# Altium integrated library TBP02R1-381-04BE.IntLib: 1 symbol
Pins are listed as number, name and electrical type; pins without a type are passive.

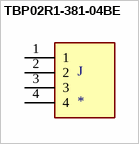
[diagram p0: symbol TBP02R1-381-04BE]

## TBP02R1-381-04BE
designator J
2~24 Poles, Pluggable,Receptacle, Horizontal, 3.81 Pitch, Terminal Block Connector; MF: CUI Devices; MP: TBP02R1-381-04BE; CUI_purchase_URL: https://www.cuidevices.com/product/interconnect/connectors/terminal-blocks/tbp02r1-381-series?utm_source=snapeda.com&utm_medium=referral&utm_campaign=snapedaBOM; SnapEDA_Link: https://www.snapeda.com/parts/TBP02R1-381-04BE/CUI%20Devices/view-part/3604718/?ref=snap; Price: None; Availability: Unavailable; Package: None; Value: *
footprint CUI_TBP02R1-381-04BE
pins: 1, 2, 3, 4